# Altium schematic symbol library XC3S50AN_TQ144.SchLib: 2 symbols
Pins are listed as number, name and electrical type; pins without a type are passive.

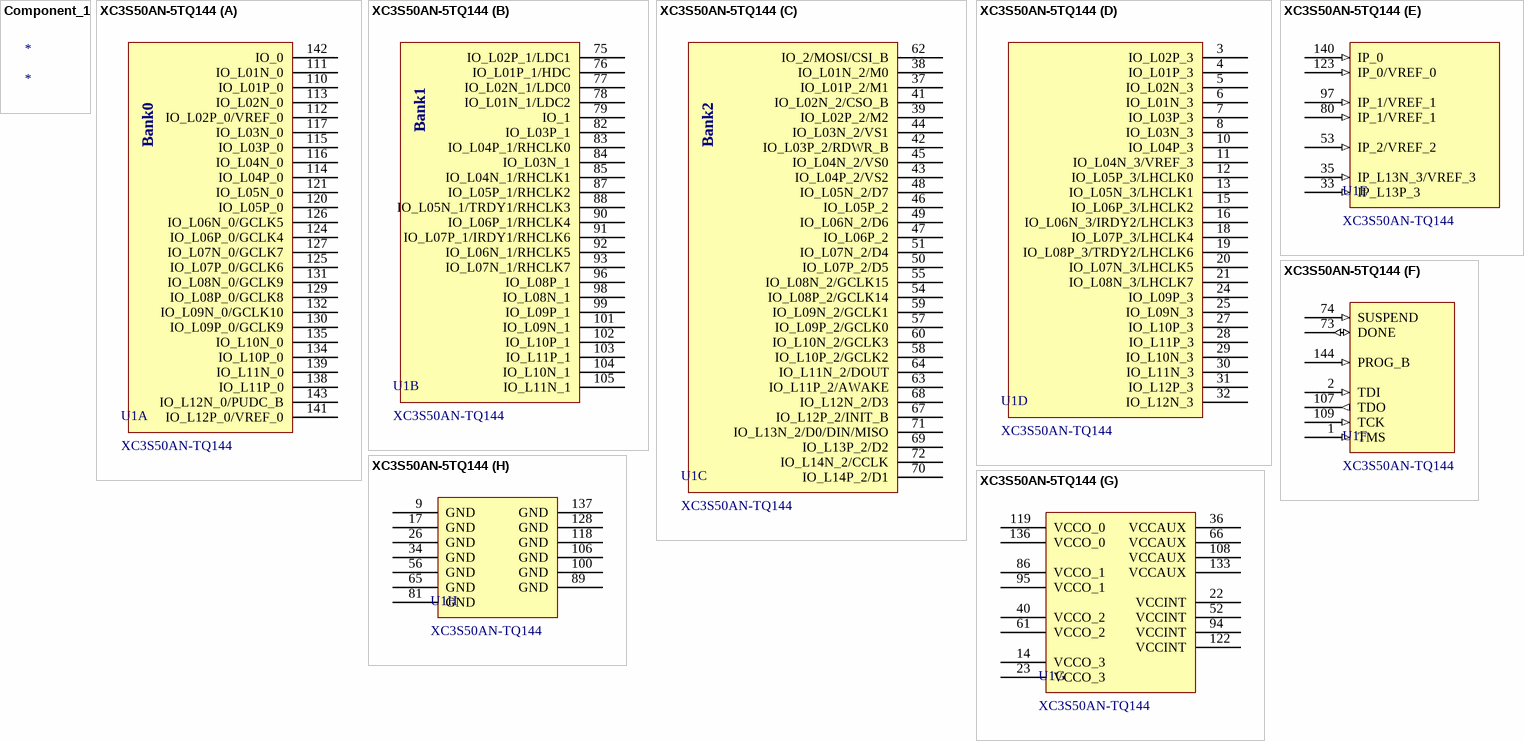
[diagram p0: symbols Component_1 to XC3S50AN-5TQ144]

## Component_1
designator *

## XC3S50AN-5TQ144
designator U1, comment XC3S50AN-TQ144
part A pins: 110 IO_L01P_0, 111 IO_L01N_0, 112 IO_L02P_0/VREF_0, 113 IO_L02N_0, 114 IO_L04P_0, 115 IO_L03P_0, 116 IO_L04N_0, 117 IO_L03N_0, 120 IO_L05P_0, 121 IO_L05N_0, 124 IO_L06P_0/GCLK4, 125 IO_L07P_0/GCLK6, 126 IO_L06N_0/GCLK5, 127 IO_L07N_0/GCLK7, 129 IO_L08P_0/GCLK8, 130 IO_L09P_0/GCLK9, 131 IO_L08N_0/GCLK9, 132 IO_L09N_0/GCLK10, 134 IO_L10P_0, 135 IO_L10N_0, 138 IO_L11P_0, 139 IO_L11N_0, 141 IO_L12P_0/VREF_0, 142 IO_0, 143 IO_L12N_0/PUDC_B
part B pins: 75 IO_L02P_1/LDC1, 76 IO_L01P_1/HDC, 77 IO_L02N_1/LDC0, 78 IO_L01N_1/LDC2, 79 IO_1, 82 IO_L03P_1, 83 IO_L04P_1/RHCLK0, 84 IO_L03N_1, 85 IO_L04N_1/RHCLK1, 87 IO_L05P_1/RHCLK2, 88 IO_L05N_1/TRDY1/RHCLK3, 90 IO_L06P_1/RHCLK4, 91 IO_L07P_1/IRDY1/RHCLK6, 92 IO_L06N_1/RHCLK5, 93 IO_L07N_1/RHCLK7, 96 IO_L08P_1, 98 IO_L08N_1, 99 IO_L09P_1, 101 IO_L09N_1, 102 IO_L10P_1, 103 IO_L11P_1, 104 IO_L10N_1, 105 IO_L11N_1
part C pins: 37 IO_L01P_2/M1, 38 IO_L01N_2/M0, 39 IO_L02P_2/M2, 41 IO_L02N_2/CSO_B, 42 IO_L03P_2/RDWR_B, 43 IO_L04P_2/VS2, 44 IO_L03N_2/VS1, 45 IO_L04N_2/VS0, 46 IO_L05P_2, 47 IO_L06P_2, 48 IO_L05N_2/D7, 49 IO_L06N_2/D6, 50 IO_L07P_2/D5, 51 IO_L07N_2/D4, 54 IO_L08P_2/GCLK14, 55 IO_L08N_2/GCLK15, 57 IO_L09P_2/GCLK0, 58 IO_L10P_2/GCLK2, 59 IO_L09N_2/GCLK1, 60 IO_L10N_2/GCLK3, 62 IO_2/MOSI/CSI_B, 63 IO_L11P_2/AWAKE, 64 IO_L11N_2/DOUT, 67 IO_L12P_2/INIT_B, 68 IO_L12N_2/D3, 69 IO_L13P_2/D2, 70 IO_L14P_2/D1, 71 IO_L13N_2/D0/DIN/MISO, 72 IO_L14N_2/CCLK
part D pins: 3 IO_L02P_3, 4 IO_L01P_3, 5 IO_L02N_3, 6 IO_L01N_3, 7 IO_L03P_3, 8 IO_L03N_3, 10 IO_L04P_3, 11 IO_L04N_3/VREF_3, 12 IO_L05P_3/LHCLK0, 13 IO_L05N_3/LHCLK1, 15 IO_L06P_3/LHCLK2, 16 IO_L06N_3/IRDY2/LHCLK3, 18 IO_L07P_3/LHCLK4, 19 IO_L08P_3/TRDY2/LHCLK6, 20 IO_L07N_3/LHCLK5, 21 IO_L08N_3/LHCLK7, 24 IO_L09P_3, 25 IO_L09N_3, 27 IO_L10P_3, 28 IO_L11P_3, 29 IO_L10N_3, 30 IO_L11N_3, 31 IO_L12P_3, 32 IO_L12N_3
part E pins: 33 IP_L13P_3 (in), 35 IP_L13N_3/VREF_3 (in), 53 IP_2/VREF_2 (in), 80 IP_1/VREF_1 (in), 97 IP_1/VREF_1 (in), 123 IP_0/VREF_0 (in), 140 IP_0 (in)
part F pins: 1 TMS (in), 2 TDI (in), 73 DONE (io), 74 SUSPEND (in), 107 TDO (out), 109 TCK (in), 144 PROG_B (in)
part G pins: 14 VCCO_3 (power), 22 VCCINT (power), 23 VCCO_3 (power), 36 VCCAUX (power), 40 VCCO_2 (power), 52 VCCINT (power), 61 VCCO_2 (power), 66 VCCAUX (power), 86 VCCO_1 (power), 94 VCCINT (power), 95 VCCO_1 (power), 108 VCCAUX (power), 119 VCCO_0 (power), 122 VCCINT (power), 133 VCCAUX (power), 136 VCCO_0 (power)
part H pins: 9 GND, 17 GND, 26 GND, 34 GND, 56 GND, 65 GND, 81 GND, 89 GND, 100 GND, 106 GND, 118 GND, 128 GND, 137 GND
part A text: Bank0
part B text: Bank1
part C text: Bank2